# Altium footprint library PCB - DIODES - DO-219AD MicroSMP.PCBLIB: 1 footprints
Each footprint in its own frame and in the unit in brackets; x right, y up, seen from the top. Pads: shape width x height; smd on the part's side, far side on the other; paste and mask are expansions set on the pad; w line width, h text height; cw(c..) or ccw(c..) is an arc to the next point about the centre after c.
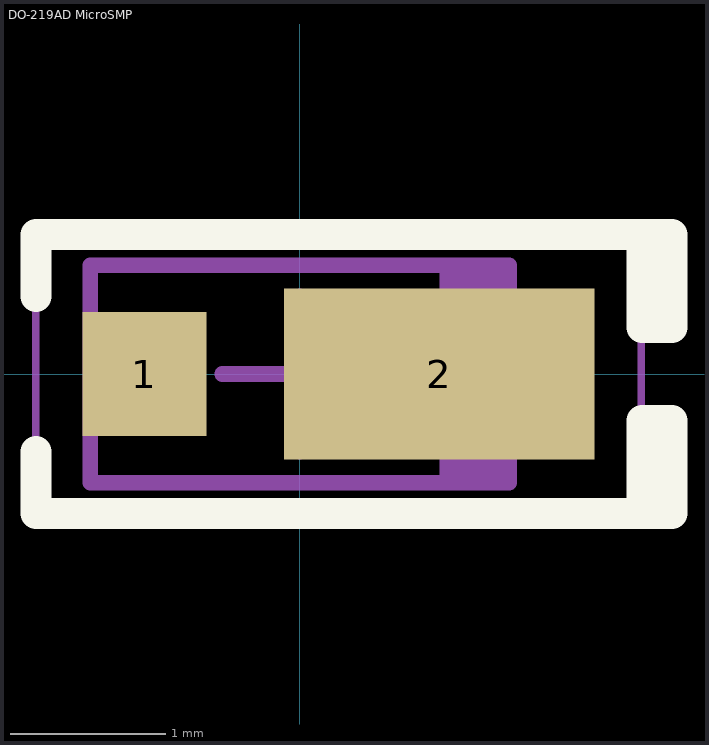
[diagram p0: the footprint, top view; thin cyan lines are the x and y axes]

## DO-219AD MicroSMP [mm] "Molded Diode, 2-Leads, Body 2.70x1.40mm, IPC Medium Density"
height 0.73
pads (2):
  rect 0.8x0.8 smd: 1(-1,0)
  rect 2x1.1 smd: 2(0.9,0)
Top Overlay:
  lines w0.2: -1.7,-0.5 -1.7,-0.9 2.4,-0.9 2.4,-0.3 2.206,-0.3 2.206,-0.894 ; -1.7,0.5 -1.7,0.9 2.4,0.9 2.4,0.3 2.206,0.3 2.206,0.894
Mechanical 13:
  rectangle: 0.9,-0.7 1.35,0.7
  lines w0.1: -1.35,-0.7 -1.35,0.7 1.35,0.7 1.35,-0.7 -1.35,-0.7
Mechanical 15:
  lines w0.05: -1.7,-0.9 2.2,-0.9 2.2,0.9 -1.7,0.9 -1.7,-0.9
Mechanical 2 (Mech9):
  lines w0.1: -0.5,0 0.5,0 ; 0,-0.5 0,0.5
3D body "Vishay - MICROSMP.step": height 0.74, standoff 0, extent -1.25,-0.65 1.25,0.65